# Altium schematic symbol library REMOTER.SchLib: 3 symbols
Pins are listed as number, name and electrical type; pins without a type are passive.

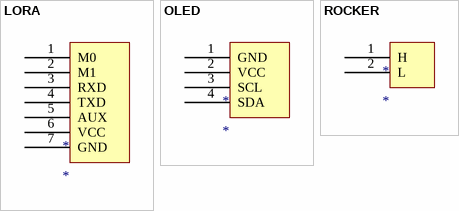
[diagram p0: symbols LORA to ROCKER]

## LORA
designator *
pins: 1 M0, 2 M1, 3 RXD, 4 TXD, 5 AUX, 6 VCC, 7 GND

## OLED
designator *
pins: 1 GND, 2 VCC, 3 SCL, 4 SDA

## ROCKER
designator *
pins: 1 H, 2 L